# Altium footprint library con-wago255.PCBLIB: 101 footprints (part 3 of 7)
Each footprint in its own frame and in the unit in brackets; x right, y up, seen from the top. Pads: shape width x height; smd on the part's side, far side on the other; paste and mask are expansions set on the pad; w line width, h text height; cw(c..) or ccw(c..) is an arc to the next point about the centre after c.
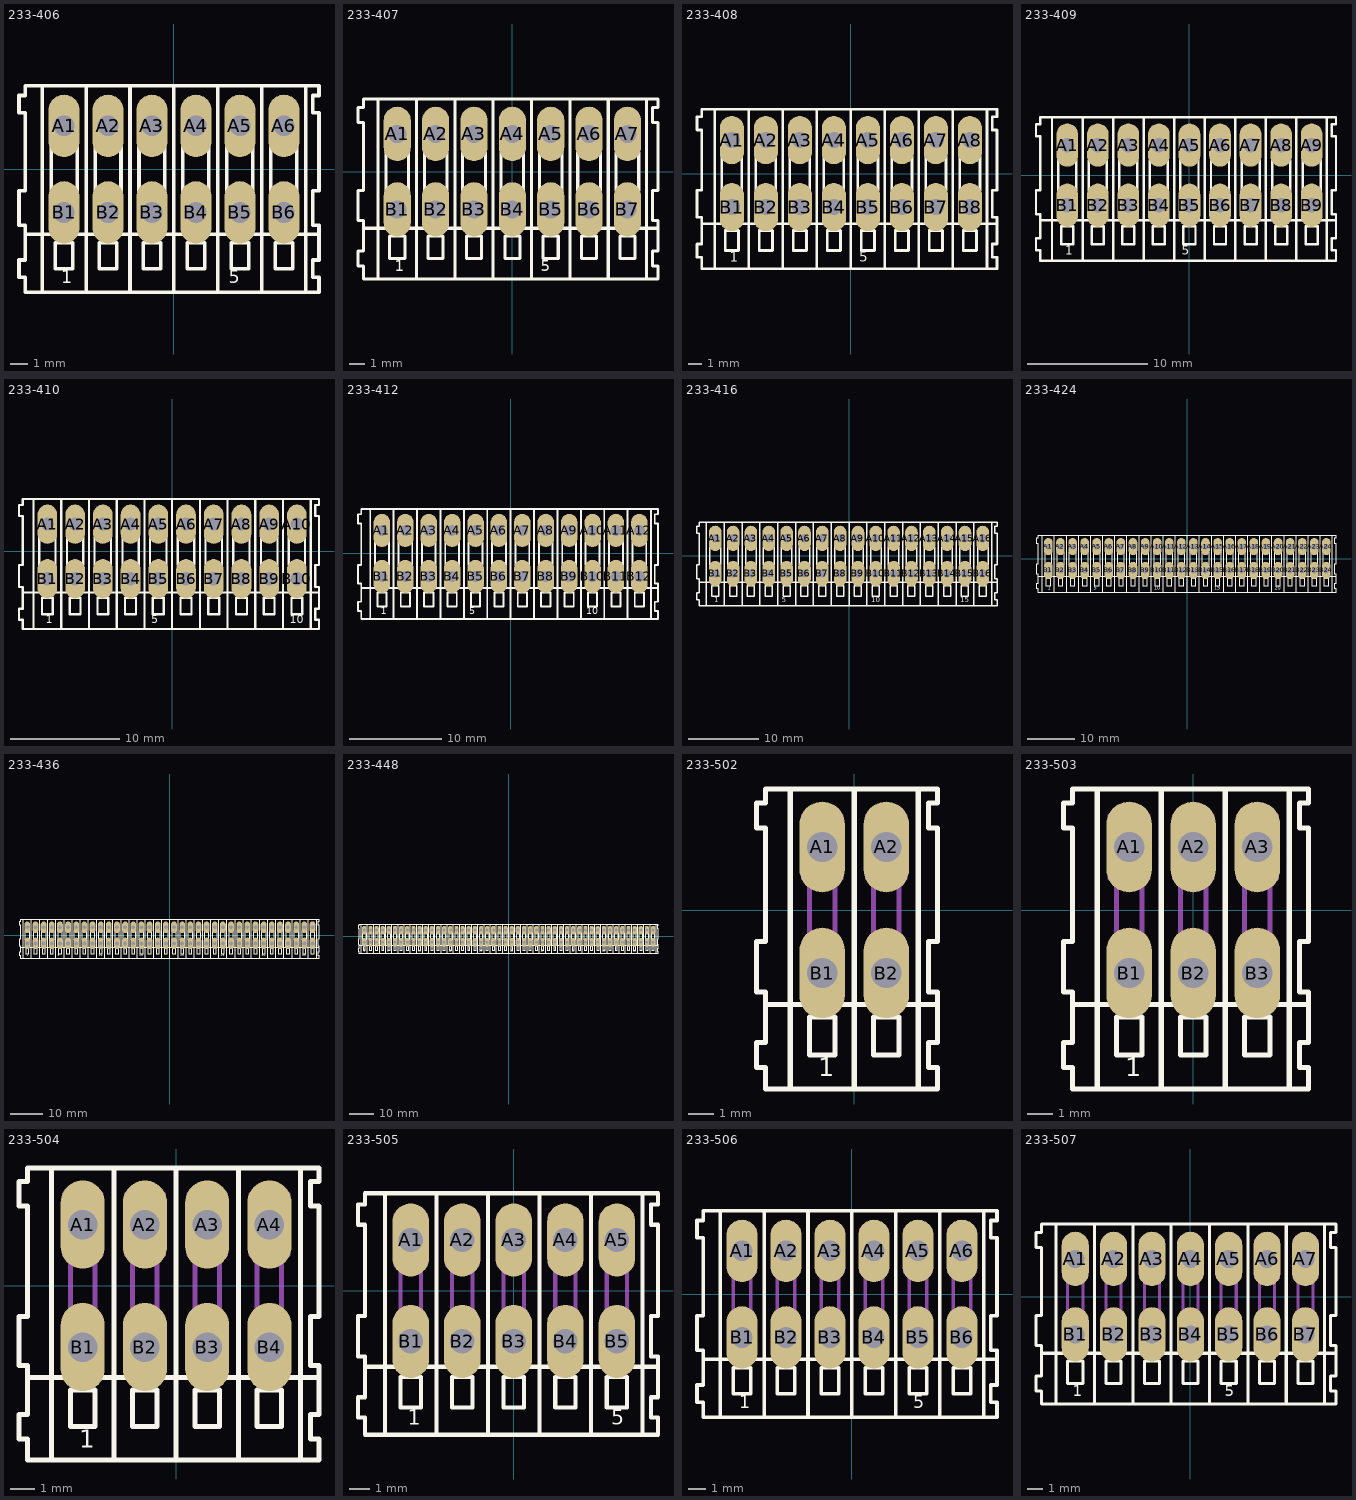
[diagram p2: the footprints below, top view; thin cyan lines are the x and y axes]

## 233-406 [mil]
pads (12):
  oval 70.86x141.72 hole 47.24: A1(-250,98.43) A2(-150,98.43) A3(-50,98.43) A4(50,98.43) A5(150,98.43) A6(250,98.43) B1(-250,-98.43) B2(-150,-98.43) B3(-50,-98.43) B4(50,-98.43) B5(150,-98.43) B6(250,-98.43)
Top Overlay:
  lines w8: -338.58,-147.64 329.72,-147.64 ; -300,-275 -300,185 ; -200,-275 -200,185 ; -100,-275 -100,185 ; 0,-275 0,185 ; 100,-275 100,185 ; 200,-275 200,185 ; 300,-275 300,185 ; 329.72,-147.64 329.72,-206.69 315.94,-206.69 315.94,-246.06 329.72,-246.06 329.72,-279.53 -338.58,-279.53 -338.58,-246.06 -352.36,-246.06 -352.36,-206.69 -338.58,-206.69 -338.58,-127.95 -352.36,-127.95 -352.36,-49.21 -338.58,-49.21 -338.58,127.95 -352.36,127.95 -352.36,167.32 -338.58,167.32 -338.58,188.98 329.72,188.98 329.72,167.32 315.94,167.32 315.94,127.95 329.72,127.95 329.72,-49.21 315.94,-49.21 315.94,-127.95 329.72,-127.95 329.72,-147.64 ; -279.53,-49.21 -279.53,49.21 -220.47,49.21 -220.47,-49.21 -279.53,-49.21 ; -269.69,-226.38 -269.69,-167.32 -230.32,-167.32 -230.32,-226.38 -269.69,-226.38 ; -179.53,-49.21 -179.53,49.21 -120.47,49.21 -120.47,-49.21 -179.53,-49.21 ; -169.69,-226.38 -169.69,-167.32 -130.32,-167.32 -130.32,-226.38 -169.69,-226.38 ; -79.53,-49.21 -79.53,49.21 -20.47,49.21 -20.47,-49.21 -79.53,-49.21 ; -69.69,-226.38 -69.69,-167.32 -30.32,-167.32 -30.32,-226.38 -69.69,-226.38 ; 20.47,-49.21 20.47,49.21 79.53,49.21 79.53,-49.21 20.47,-49.21 ; 30.32,-226.38 30.32,-167.32 69.69,-167.32 69.69,-226.38 30.32,-226.38 ; 120.47,-49.21 120.47,49.21 179.53,49.21 179.53,-49.21 120.47,-49.21 ; 130.32,-226.38 130.32,-167.32 169.69,-167.32 169.69,-226.38 130.32,-226.38 ; 220.47,-49.21 220.47,49.21 279.53,49.21 279.53,-49.21 220.47,-49.21 ; 230.32,-226.38 230.32,-167.32 269.69,-167.32 269.69,-226.38 230.32,-226.38
  text "1" at -255.91,-269.69 h49.6
  text "5" at 124.09,-269.69 h49.6

## 233-407 [mil]
pads (14):
  oval 70.86x141.72 hole 47.24: A1(-300,98.43) A2(-200,98.43) A3(-100,98.43) A4(0,98.43) A5(100,98.43) A6(200,98.43) A7(300,98.43) B1(-300,-98.43) B2(-200,-98.43) B3(-100,-98.43) B4(0,-98.43) B5(100,-98.43) B6(200,-98.43) B7(300,-98.43)
Top Overlay:
  lines w8: -388.58,-147.64 379.72,-147.64 ; -350,-275 -350,185 ; -250,-275 -250,185 ; -150,-275 -150,185 ; -50,-275 -50,185 ; 50,-275 50,185 ; 150,-275 150,185 ; 250,-275 250,185 ; 350,-275 350,185 ; 379.72,-147.64 379.72,-206.69 365.94,-206.69 365.94,-246.06 379.72,-246.06 379.72,-279.53 -388.58,-279.53 -388.58,-246.06 -402.36,-246.06 -402.36,-206.69 -388.58,-206.69 -388.58,-127.95 -402.36,-127.95 -402.36,-49.21 -388.58,-49.21 -388.58,127.95 -402.36,127.95 -402.36,167.32 -388.58,167.32 -388.58,188.98 379.72,188.98 379.72,167.32 365.94,167.32 365.94,127.95 379.72,127.95 379.72,-49.21 365.94,-49.21 365.94,-127.95 379.72,-127.95 379.72,-147.64 ; -329.53,-49.21 -329.53,49.21 -270.47,49.21 -270.47,-49.21 -329.53,-49.21 ; -319.69,-226.38 -319.69,-167.32 -280.32,-167.32 -280.32,-226.38 -319.69,-226.38 ; -229.53,-49.21 -229.53,49.21 -170.47,49.21 -170.47,-49.21 -229.53,-49.21 ; -219.69,-226.38 -219.69,-167.32 -180.32,-167.32 -180.32,-226.38 -219.69,-226.38 ; -129.53,-49.21 -129.53,49.21 -70.47,49.21 -70.47,-49.21 -129.53,-49.21 ; -119.69,-226.38 -119.69,-167.32 -80.32,-167.32 -80.32,-226.38 -119.69,-226.38 ; -29.53,-49.21 -29.53,49.21 29.53,49.21 29.53,-49.21 -29.53,-49.21 ; -19.69,-226.38 -19.69,-167.32 19.69,-167.32 19.69,-226.38 -19.69,-226.38 ; 70.47,-49.21 70.47,49.21 129.53,49.21 129.53,-49.21 70.47,-49.21 ; 80.32,-226.38 80.32,-167.32 119.69,-167.32 119.69,-226.38 80.32,-226.38 ; 170.47,-49.21 170.47,49.21 229.53,49.21 229.53,-49.21 170.47,-49.21 ; 180.32,-226.38 180.32,-167.32 219.69,-167.32 219.69,-226.38 180.32,-226.38 ; 270.47,-49.21 270.47,49.21 329.53,49.21 329.53,-49.21 270.47,-49.21 ; 280.32,-226.38 280.32,-167.32 319.69,-167.32 319.69,-226.38 280.32,-226.38
  text "1" at -305.91,-269.69 h49.6
  text "5" at 74.09,-269.69 h49.6

## 233-408 [mil]
pads (16):
  oval 70.86x141.72 hole 47.24: A1(-350,98.43) A2(-250,98.43) A3(-150,98.43) A4(-50,98.43) A5(50,98.43) A6(150,98.43) A7(250,98.43) A8(350,98.43) B1(-350,-98.43) B2(-250,-98.43) B3(-150,-98.43) B4(-50,-98.43) B5(50,-98.43) B6(150,-98.43) B7(250,-98.43) B8(350,-98.43)
Top Overlay:
  lines w8: -438.58,-147.64 429.72,-147.64 ; -400,-275 -400,185 ; -300,-275 -300,185 ; -200,-275 -200,185 ; -100,-275 -100,185 ; 0,-275 0,185 ; 100,-275 100,185 ; 200,-275 200,185 ; 300,-275 300,185 ; 400,-275 400,185 ; 429.72,-147.64 429.72,-206.69 415.94,-206.69 415.94,-246.06 429.72,-246.06 429.72,-279.53 -438.58,-279.53 -438.58,-246.06 -452.36,-246.06 -452.36,-206.69 -438.58,-206.69 -438.58,-127.95 -452.36,-127.95 -452.36,-49.21 -438.58,-49.21 -438.58,127.95 -452.36,127.95 -452.36,167.32 -438.58,167.32 -438.58,188.98 429.72,188.98 429.72,167.32 415.94,167.32 415.94,127.95 429.72,127.95 429.72,-49.21 415.94,-49.21 415.94,-127.95 429.72,-127.95 429.72,-147.64 ; -379.53,-49.21 -379.53,49.21 -320.47,49.21 -320.47,-49.21 -379.53,-49.21 ; -369.69,-226.38 -369.69,-167.32 -330.32,-167.32 -330.32,-226.38 -369.69,-226.38 ; -279.53,-49.21 -279.53,49.21 -220.47,49.21 -220.47,-49.21 -279.53,-49.21 ; -269.69,-226.38 -269.69,-167.32 -230.32,-167.32 -230.32,-226.38 -269.69,-226.38 ; -179.53,-49.21 -179.53,49.21 -120.47,49.21 -120.47,-49.21 -179.53,-49.21 ; -169.69,-226.38 -169.69,-167.32 -130.32,-167.32 -130.32,-226.38 -169.69,-226.38 ; -79.53,-49.21 -79.53,49.21 -20.47,49.21 -20.47,-49.21 -79.53,-49.21 ; -69.69,-226.38 -69.69,-167.32 -30.32,-167.32 -30.32,-226.38 -69.69,-226.38 ; 20.47,-49.21 20.47,49.21 79.53,49.21 79.53,-49.21 20.47,-49.21 ; 30.32,-226.38 30.32,-167.32 69.69,-167.32 69.69,-226.38 30.32,-226.38 ; 120.47,-49.21 120.47,49.21 179.53,49.21 179.53,-49.21 120.47,-49.21 ; 130.32,-226.38 130.32,-167.32 169.69,-167.32 169.69,-226.38 130.32,-226.38 ; 220.47,-49.21 220.47,49.21 279.53,49.21 279.53,-49.21 220.47,-49.21 ; 230.32,-226.38 230.32,-167.32 269.69,-167.32 269.69,-226.38 230.32,-226.38 ; 320.47,-49.21 320.47,49.21 379.53,49.21 379.53,-49.21 320.47,-49.21 ; 330.32,-226.38 330.32,-167.32 369.69,-167.32 369.69,-226.38 330.32,-226.38
  text "1" at -355.91,-269.69 h49.6
  text "5" at 24.09,-269.69 h49.6

## 233-409 [mil]
pads (18):
  oval 70.86x141.72 hole 47.24: A1(-400,98.43) A2(-300,98.43) A3(-200,98.43) A4(-100,98.43) A5(0,98.43) A6(100,98.43) A7(200,98.43) A8(300,98.43) A9(400,98.43) B1(-400,-98.43) B2(-300,-98.43) B3(-200,-98.43) B4(-100,-98.43) B5(0,-98.43) B6(100,-98.43) B7(200,-98.43) B8(300,-98.43) B9(400,-98.43)
Top Overlay:
  lines w8: -488.58,-147.64 479.72,-147.64 ; -450,-275 -450,185 ; -350,-275 -350,185 ; -250,-275 -250,185 ; -150,-275 -150,185 ; -50,-275 -50,185 ; 50,-275 50,185 ; 150,-275 150,185 ; 250,-275 250,185 ; 350,-275 350,185 ; 450,-275 450,185 ; 479.72,-147.64 479.72,-206.69 465.94,-206.69 465.94,-246.06 479.72,-246.06 479.72,-279.53 -488.58,-279.53 -488.58,-246.06 -502.36,-246.06 -502.36,-206.69 -488.58,-206.69 -488.58,-127.95 -502.36,-127.95 -502.36,-49.21 -488.58,-49.21 -488.58,127.95 -502.36,127.95 -502.36,167.32 -488.58,167.32 -488.58,188.98 479.72,188.98 479.72,167.32 465.94,167.32 465.94,127.95 479.72,127.95 479.72,-49.21 465.94,-49.21 465.94,-127.95 479.72,-127.95 479.72,-147.64 ; -429.53,-49.21 -429.53,49.21 -370.47,49.21 -370.47,-49.21 -429.53,-49.21 ; -419.69,-226.38 -419.69,-167.32 -380.32,-167.32 -380.32,-226.38 -419.69,-226.38 ; -329.53,-49.21 -329.53,49.21 -270.47,49.21 -270.47,-49.21 -329.53,-49.21 ; -319.69,-226.38 -319.69,-167.32 -280.32,-167.32 -280.32,-226.38 -319.69,-226.38 ; -229.53,-49.21 -229.53,49.21 -170.47,49.21 -170.47,-49.21 -229.53,-49.21 ; -219.69,-226.38 -219.69,-167.32 -180.32,-167.32 -180.32,-226.38 -219.69,-226.38 ; -129.53,-49.21 -129.53,49.21 -70.47,49.21 -70.47,-49.21 -129.53,-49.21 ; -119.69,-226.38 -119.69,-167.32 -80.32,-167.32 -80.32,-226.38 -119.69,-226.38 ; -29.53,-49.21 -29.53,49.21 29.53,49.21 29.53,-49.21 -29.53,-49.21 ; -19.69,-226.38 -19.69,-167.32 19.69,-167.32 19.69,-226.38 -19.69,-226.38 ; 70.47,-49.21 70.47,49.21 129.53,49.21 129.53,-49.21 70.47,-49.21 ; 80.32,-226.38 80.32,-167.32 119.69,-167.32 119.69,-226.38 80.32,-226.38 ; 170.47,-49.21 170.47,49.21 229.53,49.21 229.53,-49.21 170.47,-49.21 ; 180.32,-226.38 180.32,-167.32 219.69,-167.32 219.69,-226.38 180.32,-226.38 ; 270.47,-49.21 270.47,49.21 329.53,49.21 329.53,-49.21 270.47,-49.21 ; 280.32,-226.38 280.32,-167.32 319.69,-167.32 319.69,-226.38 280.32,-226.38 ; 370.47,-49.21 370.47,49.21 429.53,49.21 429.53,-49.21 370.47,-49.21 ; 380.32,-226.38 380.32,-167.32 419.69,-167.32 419.69,-226.38 380.32,-226.38
  text "1" at -405.91,-269.69 h49.6
  text "5" at -25.91,-269.69 h49.6

## 233-410 [mil]
pads (20):
  oval 70.86x141.72 hole 47.24: A1(-450,98.43) A2(-350,98.43) A3(-250,98.43) A4(-150,98.43) A5(-50,98.43) A6(50,98.43) A7(150,98.43) A8(250,98.43) A9(350,98.43) A10(450,98.43) B1(-450,-98.43) B2(-350,-98.43) B3(-250,-98.43) B4(-150,-98.43) B5(-50,-98.43) B6(50,-98.43) B7(150,-98.43) B8(250,-98.43) B9(350,-98.43) B10(450,-98.43)
Top Overlay:
  lines w8: -538.58,-147.64 529.72,-147.64 ; -500,-275 -500,185 ; -400,-275 -400,185 ; -300,-275 -300,185 ; -200,-275 -200,185 ; -100,-275 -100,185 ; 0,-275 0,185 ; 100,-275 100,185 ; 200,-275 200,185 ; 300,-275 300,185 ; 400,-275 400,185 ; 500,-275 500,185 ; 529.72,-147.64 529.72,-206.69 515.94,-206.69 515.94,-246.06 529.72,-246.06 529.72,-279.53 -538.58,-279.53 -538.58,-246.06 -552.36,-246.06 -552.36,-206.69 -538.58,-206.69 -538.58,-127.95 -552.36,-127.95 -552.36,-49.21 -538.58,-49.21 -538.58,127.95 -552.36,127.95 -552.36,167.32 -538.58,167.32 -538.58,188.98 529.72,188.98 529.72,167.32 515.94,167.32 515.94,127.95 529.72,127.95 529.72,-49.21 515.94,-49.21 515.94,-127.95 529.72,-127.95 529.72,-147.64 ; -479.53,-49.21 -479.53,49.21 -420.47,49.21 -420.47,-49.21 -479.53,-49.21 ; -469.69,-226.38 -469.69,-167.32 -430.32,-167.32 -430.32,-226.38 -469.69,-226.38 ; -379.53,-49.21 -379.53,49.21 -320.47,49.21 -320.47,-49.21 -379.53,-49.21 ; -369.69,-226.38 -369.69,-167.32 -330.32,-167.32 -330.32,-226.38 -369.69,-226.38 ; -279.53,-49.21 -279.53,49.21 -220.47,49.21 -220.47,-49.21 -279.53,-49.21 ; -269.69,-226.38 -269.69,-167.32 -230.32,-167.32 -230.32,-226.38 -269.69,-226.38 ; -179.53,-49.21 -179.53,49.21 -120.47,49.21 -120.47,-49.21 -179.53,-49.21 ; -169.69,-226.38 -169.69,-167.32 -130.32,-167.32 -130.32,-226.38 -169.69,-226.38 ; -79.53,-49.21 -79.53,49.21 -20.47,49.21 -20.47,-49.21 -79.53,-49.21 ; -69.69,-226.38 -69.69,-167.32 -30.32,-167.32 -30.32,-226.38 -69.69,-226.38 ; 20.47,-49.21 20.47,49.21 79.53,49.21 79.53,-49.21 20.47,-49.21 ; 30.32,-226.38 30.32,-167.32 69.69,-167.32 69.69,-226.38 30.32,-226.38 ; 120.47,-49.21 120.47,49.21 179.53,49.21 179.53,-49.21 120.47,-49.21 ; 130.32,-226.38 130.32,-167.32 169.69,-167.32 169.69,-226.38 130.32,-226.38 ; 220.47,-49.21 220.47,49.21 279.53,49.21 279.53,-49.21 220.47,-49.21 ; 230.32,-226.38 230.32,-167.32 269.69,-167.32 269.69,-226.38 230.32,-226.38 ; 320.47,-49.21 320.47,49.21 379.53,49.21 379.53,-49.21 320.47,-49.21 ; 330.32,-226.38 330.32,-167.32 369.69,-167.32 369.69,-226.38 330.32,-226.38 ; 420.47,-49.21 420.47,49.21 479.53,49.21 479.53,-49.21 420.47,-49.21 ; 430.32,-226.38 430.32,-167.32 469.69,-167.32 469.69,-226.38 430.32,-226.38
  text "1" at -455.91,-269.69 h49.6
  text "5" at -75.91,-269.69 h49.6
  text "10" at 424.09,-269.69 h49.6

## 233-412 [mil]
pads (24):
  oval 70.86x141.72 hole 47.24: A1(-550,98.43) A2(-450,98.43) A3(-350,98.43) A4(-250,98.43) A5(-150,98.43) A6(-50,98.43) A7(50,98.43) A8(150,98.43) A9(250,98.43) A10(350,98.43) A11(450,98.43) A12(550,98.43) B1(-550,-98.43) B2(-450,-98.43) B3(-350,-98.43) B4(-250,-98.43) B5(-150,-98.43) B6(-50,-98.43) B7(50,-98.43) B8(150,-98.43) B9(250,-98.43) B10(350,-98.43) B11(450,-98.43) B12(550,-98.43)
Top Overlay:
  lines w8: -638.58,-147.64 629.72,-147.64 ; -600,-275 -600,185 ; -500,-275 -500,185 ; -400,-275 -400,185 ; -300,-275 -300,185 ; -200,-275 -200,185 ; -100,-275 -100,185 ; 0,-275 0,185 ; 100,-275 100,185 ; 200,-275 200,185 ; 300,-275 300,185 ; 400,-275 400,185 ; 500,-275 500,185 ; 600,-275 600,185 ; 629.72,-147.64 629.72,-206.69 615.94,-206.69 615.94,-246.06 629.72,-246.06 629.72,-279.53 -638.58,-279.53 -638.58,-246.06 -652.36,-246.06 -652.36,-206.69 -638.58,-206.69 -638.58,-127.95 -652.36,-127.95 -652.36,-49.21 -638.58,-49.21 -638.58,127.95 -652.36,127.95 -652.36,167.32 -638.58,167.32 -638.58,188.98 629.72,188.98 629.72,167.32 615.94,167.32 615.94,127.95 629.72,127.95 629.72,-49.21 615.94,-49.21 615.94,-127.95 629.72,-127.95 629.72,-147.64 ; -579.53,-49.21 -579.53,49.21 -520.47,49.21 -520.47,-49.21 -579.53,-49.21 ; -569.69,-226.38 -569.69,-167.32 -530.32,-167.32 -530.32,-226.38 -569.69,-226.38 ; -479.53,-49.21 -479.53,49.21 -420.47,49.21 -420.47,-49.21 -479.53,-49.21 ; -469.69,-226.38 -469.69,-167.32 -430.32,-167.32 -430.32,-226.38 -469.69,-226.38 ; -379.53,-49.21 -379.53,49.21 -320.47,49.21 -320.47,-49.21 -379.53,-49.21 ; -369.69,-226.38 -369.69,-167.32 -330.32,-167.32 -330.32,-226.38 -369.69,-226.38 ; -279.53,-49.21 -279.53,49.21 -220.47,49.21 -220.47,-49.21 -279.53,-49.21 ; -269.69,-226.38 -269.69,-167.32 -230.32,-167.32 -230.32,-226.38 -269.69,-226.38 ; -179.53,-49.21 -179.53,49.21 -120.47,49.21 -120.47,-49.21 -179.53,-49.21 ; -169.69,-226.38 -169.69,-167.32 -130.32,-167.32 -130.32,-226.38 -169.69,-226.38 ; -79.53,-49.21 -79.53,49.21 -20.47,49.21 -20.47,-49.21 -79.53,-49.21 ; -69.69,-226.38 -69.69,-167.32 -30.32,-167.32 -30.32,-226.38 -69.69,-226.38 ; 20.47,-49.21 20.47,49.21 79.53,49.21 79.53,-49.21 20.47,-49.21 ; 30.32,-226.38 30.32,-167.32 69.69,-167.32 69.69,-226.38 30.32,-226.38 ; 120.47,-49.21 120.47,49.21 179.53,49.21 179.53,-49.21 120.47,-49.21 ; 130.32,-226.38 130.32,-167.32 169.69,-167.32 169.69,-226.38 130.32,-226.38 ; 220.47,-49.21 220.47,49.21 279.53,49.21 279.53,-49.21 220.47,-49.21 ; 230.32,-226.38 230.32,-167.32 269.69,-167.32 269.69,-226.38 230.32,-226.38 ; 320.47,-49.21 320.47,49.21 379.53,49.21 379.53,-49.21 320.47,-49.21 ; 330.32,-226.38 330.32,-167.32 369.69,-167.32 369.69,-226.38 330.32,-226.38 ; 420.47,-49.21 420.47,49.21 479.53,49.21 479.53,-49.21 420.47,-49.21 ; 430.32,-226.38 430.32,-167.32 469.69,-167.32 469.69,-226.38 430.32,-226.38 ; 520.47,-49.21 520.47,49.21 579.53,49.21 579.53,-49.21 520.47,-49.21 ; 530.32,-226.38 530.32,-167.32 569.69,-167.32 569.69,-226.38 530.32,-226.38
  text "1" at -555.91,-269.69 h49.6
  text "5" at -175.91,-269.69 h49.6
  text "10" at 324.09,-269.69 h49.6

## 233-416 [mil]
pads (32):
  oval 70.86x141.72 hole 47.24: A1(-750,98.43) A2(-650,98.43) A3(-550,98.43) A4(-450,98.43) A5(-350,98.43) A6(-250,98.43) A7(-150,98.43) A8(-50,98.43) A9(50,98.43) A10(150,98.43) A11(250,98.43) A12(350,98.43) A13(450,98.43) A14(550,98.43) A15(650,98.43) A16(750,98.43) B1(-750,-98.43) B2(-650,-98.43) B3(-550,-98.43) B4(-450,-98.43) B5(-350,-98.43) B6(-250,-98.43) B7(-150,-98.43) B8(-50,-98.43) B9(50,-98.43) B10(150,-98.43) B11(250,-98.43) B12(350,-98.43) B13(450,-98.43) B14(550,-98.43) B15(650,-98.43) B16(750,-98.43)
Top Overlay:
  drawing of 175 lines, arcs and shapes, not listed
  text "1" at -755.91,-269.69 h49.6
  text "5" at -375.91,-269.69 h49.6
  text "10" at 124.09,-269.69 h49.6
  text "15" at 624.09,-269.69 h49.6

## 233-424 [mil]
pads (48):
  oval 70.86x141.72 hole 47.24: A1(-1150,98.43) A2(-1050,98.43) A3(-950,98.43) A4(-850,98.43) A5(-750,98.43) A6(-650,98.43) A7(-550,98.43) A8(-450,98.43) A9(-350,98.43) A10(-250,98.43) A11(-150,98.43) A12(-50,98.43) A13(50,98.43) A14(150,98.43) A15(250,98.43) A16(350,98.43) A17(450,98.43) A18(550,98.43) A19(650,98.43) A20(750,98.43) A21(850,98.43) A22(950,98.43) A23(1050,98.43) A24(1150,98.43) B1(-1150,-98.43) B2(-1050,-98.43) B3(-950,-98.43) B4(-850,-98.43) B5(-750,-98.43) B6(-650,-98.43) B7(-550,-98.43) B8(-450,-98.43) B9(-350,-98.43) B10(-250,-98.43) B11(-150,-98.43) B12(-50,-98.43) B13(50,-98.43) B14(150,-98.43) B15(250,-98.43) B16(350,-98.43) B17(450,-98.43) B18(550,-98.43) B19(650,-98.43) B20(750,-98.43) B21(850,-98.43) B22(950,-98.43) B23(1050,-98.43) B24(1150,-98.43)
Top Overlay:
  drawing of 247 lines, arcs and shapes, not listed
  text "1" at -1155.91,-269.69 h49.6
  text "5" at -775.91,-269.69 h49.6
  text "10" at -275.91,-269.69 h49.6
  text "15" at 224.09,-269.69 h49.6
  text "20" at 724.09,-269.69 h49.6

## 233-436 [mil]
pads (72):
  oval 70.86x141.72 hole 47.24: A1(-1750,98.43) A2(-1650,98.43) A3(-1550,98.43) A4(-1450,98.43) A5(-1350,98.43) A6(-1250,98.43) A7(-1150,98.43) A8(-1050,98.43) A9(-950,98.43) A10(-850,98.43) A11(-750,98.43) A12(-650,98.43) A13(-550,98.43) A14(-450,98.43) A15(-350,98.43) A16(-250,98.43) A17(-150,98.43) A18(-50,98.43) A19(50,98.43) A20(150,98.43) A21(250,98.43) A22(350,98.43) A23(450,98.43) A24(550,98.43) A25(650,98.43) A26(750,98.43) A27(850,98.43) A28(950,98.43) A29(1050,98.43) A30(1150,98.43) A31(1250,98.43) A32(1350,98.43) A33(1450,98.43) A34(1550,98.43) A35(1650,98.43) A36(1750,98.43) B1(-1750,-98.43) B2(-1650,-98.43) B3(-1550,-98.43) B4(-1450,-98.43) B5(-1350,-98.43) B6(-1250,-98.43) B7(-1150,-98.43) B8(-1050,-98.43) B9(-950,-98.43) B10(-850,-98.43) B11(-750,-98.43) B12(-650,-98.43) B13(-550,-98.43) B14(-450,-98.43) B15(-350,-98.43) B16(-250,-98.43) B17(-150,-98.43) B18(-50,-98.43) B19(50,-98.43) B20(150,-98.43) B21(250,-98.43) B22(350,-98.43) B23(450,-98.43) B24(550,-98.43) B25(650,-98.43) B26(750,-98.43) B27(850,-98.43) B28(950,-98.43) B29(1050,-98.43) B30(1150,-98.43) B31(1250,-98.43) B32(1350,-98.43) B33(1450,-98.43) B34(1550,-98.43) B35(1650,-98.43) B36(1750,-98.43)
Top Overlay:
  drawing of 355 lines, arcs and shapes, not listed
  text "1" at -1755.91,-269.69 h49.6
  text "5" at -1375.91,-269.69 h49.6
  text "10" at -875.91,-269.69 h49.6
  text "15" at -375.91,-269.69 h49.6
  text "20" at 124.09,-269.69 h49.6
  text "25" at 624.09,-269.69 h49.6
  text "30" at 1124.09,-269.69 h49.6
  text "35" at 1624.09,-269.69 h49.6

## 233-448 [mil]
pads (96):
  oval 70.86x141.72 hole 47.24: A1(-2350,98.43) A2(-2250,98.43) A3(-2150,98.43) A4(-2050,98.43) A5(-1950,98.43) A6(-1850,98.43) A7(-1750,98.43) A8(-1650,98.43) A9(-1550,98.43) A10(-1450,98.43) A11(-1350,98.43) A12(-1250,98.43) A13(-1150,98.43) A14(-1050,98.43) A15(-950,98.43) A16(-850,98.43) A17(-750,98.43) A18(-650,98.43) A19(-550,98.43) A20(-450,98.43) A21(-350,98.43) A22(-250,98.43) A23(-150,98.43) A24(-50,98.43) A25(50,98.43) A26(150,98.43) A27(250,98.43) A28(350,98.43) A29(450,98.43) A30(550,98.43) A31(650,98.43) A32(750,98.43) A33(850,98.43) A34(950,98.43) A35(1050,98.43) A36(1150,98.43) A37(1250,98.43) A38(1350,98.43) A39(1450,98.43) A40(1550,98.43) A41(1650,98.43) A42(1750,98.43) A43(1850,98.43) A44(1950,98.43) A45(2050,98.43) A46(2150,98.43) A47(2250,98.43) A48(2350,98.43) B1(-2350,-98.43) B2(-2250,-98.43) B3(-2150,-98.43) B4(-2050,-98.43) B5(-1950,-98.43) B6(-1850,-98.43) B7(-1750,-98.43) B8(-1650,-98.43) B9(-1550,-98.43) B10(-1450,-98.43) B11(-1350,-98.43) B12(-1250,-98.43) B13(-1150,-98.43) B14(-1050,-98.43) B15(-950,-98.43) B16(-850,-98.43) B17(-750,-98.43) B18(-650,-98.43) B19(-550,-98.43) B20(-450,-98.43) B21(-350,-98.43) B22(-250,-98.43) B23(-150,-98.43) B24(-50,-98.43) B25(50,-98.43) B26(150,-98.43) B27(250,-98.43) B28(350,-98.43) B29(450,-98.43) B30(550,-98.43) B31(650,-98.43) B32(750,-98.43) B33(850,-98.43) B34(950,-98.43) B35(1050,-98.43) B36(1150,-98.43) B37(1250,-98.43) B38(1350,-98.43) B39(1450,-98.43) B40(1550,-98.43) B41(1650,-98.43) B42(1750,-98.43) B43(1850,-98.43) B44(1950,-98.43) B45(2050,-98.43) B46(2150,-98.43) B47(2250,-98.43) B48(2350,-98.43)
Top Overlay:
  drawing of 463 lines, arcs and shapes, not listed
  text "1" at -2355.91,-269.69 h49.6
  text "5" at -1975.91,-269.69 h49.6
  text "10" at -1475.91,-269.69 h49.6
  text "15" at -975.91,-269.69 h49.6
  text "20" at -475.91,-269.69 h49.6
  text "25" at 24.09,-269.69 h49.6
  text "30" at 524.09,-269.69 h49.6
  text "35" at 1024.09,-269.69 h49.6
  text "40" at 1524.09,-269.69 h49.6
  text "45" at 2024.09,-269.69 h49.6

## 233-502 [mil]
pads (4):
  oval 70.86x141.72 hole 47.24: A1(-50,98.43) A2(50,98.43) B1(-50,-98.43) B2(50,-98.43)
Top Overlay:
  lines w8: -138.58,-147.64 129.72,-147.64 ; -100,-275 -100,185 ; 0,-275 0,185 ; 100,-275 100,185 ; 129.72,-147.64 129.72,-206.69 115.94,-206.69 115.94,-246.06 129.72,-246.06 129.72,-279.53 -138.58,-279.53 -138.58,-246.06 -152.36,-246.06 -152.36,-206.69 -138.58,-206.69 -138.58,-127.95 -152.36,-127.95 -152.36,-49.21 -138.58,-49.21 -138.58,127.95 -152.36,127.95 -152.36,167.32 -138.58,167.32 -138.58,188.98 129.72,188.98 129.72,167.32 115.94,167.32 115.94,127.95 129.72,127.95 129.72,-49.21 115.94,-49.21 115.94,-127.95 129.72,-127.95 129.72,-147.64 ; -69.69,-226.38 -69.69,-167.32 -30.32,-167.32 -30.32,-226.38 -69.69,-226.38 ; 30.32,-226.38 30.32,-167.32 69.69,-167.32 69.69,-226.38 30.32,-226.38
  text "1" at -55.91,-269.69 h49.6
Mechanical 16:
  lines w8: -69.69,49.21 -79.53,49.21 -79.53,147.64 -20.47,147.64 -20.47,49.21 -30.32,49.21 ; -69.69,49.21 -30.32,49.21 ; -69.69,49.21 -69.69,-39.37 -30.32,-39.37 -30.32,49.21 ; 30.32,49.21 20.47,49.21 20.47,147.64 79.53,147.64 79.53,49.21 69.69,49.21 ; 30.32,49.21 69.69,49.21 ; 30.32,49.21 30.32,-39.37 69.69,-39.37 69.69,49.21 ; -69.69,68.9 -69.69,127.95 -30.32,127.95 -30.32,68.9 -69.69,68.9 ; 30.32,68.9 30.32,127.95 69.69,127.95 69.69,68.9 30.32,68.9

## 233-503 [mil]
pads (6):
  oval 70.86x141.72 hole 47.24: A1(-100,98.43) A2(0,98.43) A3(100,98.43) B1(-100,-98.43) B2(0,-98.43) B3(100,-98.43)
Top Overlay:
  lines w8: -188.58,-147.64 179.72,-147.64 ; -150,-275 -150,185 ; -50,-275 -50,185 ; 50,-275 50,185 ; 150,-275 150,185 ; 179.72,-147.64 179.72,-206.69 165.94,-206.69 165.94,-246.06 179.72,-246.06 179.72,-279.53 -188.58,-279.53 -188.58,-246.06 -202.36,-246.06 -202.36,-206.69 -188.58,-206.69 -188.58,-127.95 -202.36,-127.95 -202.36,-49.21 -188.58,-49.21 -188.58,127.95 -202.36,127.95 -202.36,167.32 -188.58,167.32 -188.58,188.98 179.72,188.98 179.72,167.32 165.94,167.32 165.94,127.95 179.72,127.95 179.72,-49.21 165.94,-49.21 165.94,-127.95 179.72,-127.95 179.72,-147.64 ; -119.69,-226.38 -119.69,-167.32 -80.32,-167.32 -80.32,-226.38 -119.69,-226.38 ; -19.69,-226.38 -19.69,-167.32 19.69,-167.32 19.69,-226.38 -19.69,-226.38 ; 80.32,-226.38 80.32,-167.32 119.69,-167.32 119.69,-226.38 80.32,-226.38
  text "1" at -105.91,-269.69 h49.6
Mechanical 16:
  lines w8: -119.69,49.21 -129.53,49.21 -129.53,147.64 -70.47,147.64 -70.47,49.21 -80.32,49.21 ; -119.69,49.21 -80.32,49.21 ; -119.69,49.21 -119.69,-39.37 -80.32,-39.37 -80.32,49.21 ; -19.69,49.21 -29.53,49.21 -29.53,147.64 29.53,147.64 29.53,49.21 19.69,49.21 ; -19.69,49.21 19.69,49.21 ; -19.69,49.21 -19.69,-39.37 19.69,-39.37 19.69,49.21 ; 80.32,49.21 70.47,49.21 70.47,147.64 129.53,147.64 129.53,49.21 119.69,49.21 ; 80.32,49.21 119.69,49.21 ; 80.32,49.21 80.32,-39.37 119.69,-39.37 119.69,49.21 ; -119.69,68.9 -119.69,127.95 -80.32,127.95 -80.32,68.9 -119.69,68.9 ; -19.69,68.9 -19.69,127.95 19.69,127.95 19.69,68.9 -19.69,68.9 ; 80.32,68.9 80.32,127.95 119.69,127.95 119.69,68.9 80.32,68.9

## 233-504 [mil]
pads (8):
  oval 70.86x141.72 hole 47.24: A1(-150,98.43) A2(-50,98.43) A3(50,98.43) A4(150,98.43) B1(-150,-98.43) B2(-50,-98.43) B3(50,-98.43) B4(150,-98.43)
Top Overlay:
  lines w8: -238.58,-147.64 229.72,-147.64 ; -200,-275 -200,185 ; -100,-275 -100,185 ; 0,-275 0,185 ; 100,-275 100,185 ; 200,-275 200,185 ; 229.72,-147.64 229.72,-206.69 215.94,-206.69 215.94,-246.06 229.72,-246.06 229.72,-279.53 -238.58,-279.53 -238.58,-246.06 -252.36,-246.06 -252.36,-206.69 -238.58,-206.69 -238.58,-127.95 -252.36,-127.95 -252.36,-49.21 -238.58,-49.21 -238.58,127.95 -252.36,127.95 -252.36,167.32 -238.58,167.32 -238.58,188.98 229.72,188.98 229.72,167.32 215.94,167.32 215.94,127.95 229.72,127.95 229.72,-49.21 215.94,-49.21 215.94,-127.95 229.72,-127.95 229.72,-147.64 ; -169.69,-226.38 -169.69,-167.32 -130.32,-167.32 -130.32,-226.38 -169.69,-226.38 ; -69.69,-226.38 -69.69,-167.32 -30.32,-167.32 -30.32,-226.38 -69.69,-226.38 ; 30.32,-226.38 30.32,-167.32 69.69,-167.32 69.69,-226.38 30.32,-226.38 ; 130.32,-226.38 130.32,-167.32 169.69,-167.32 169.69,-226.38 130.32,-226.38
  text "1" at -155.91,-269.69 h49.6
Mechanical 16:
  lines w8: -169.69,49.21 -179.53,49.21 -179.53,147.64 -120.47,147.64 -120.47,49.21 -130.32,49.21 ; -169.69,49.21 -130.32,49.21 ; -169.69,49.21 -169.69,-39.37 -130.32,-39.37 -130.32,49.21 ; -69.69,49.21 -79.53,49.21 -79.53,147.64 -20.47,147.64 -20.47,49.21 -30.32,49.21 ; -69.69,49.21 -30.32,49.21 ; -69.69,49.21 -69.69,-39.37 -30.32,-39.37 -30.32,49.21 ; 30.32,49.21 20.47,49.21 20.47,147.64 79.53,147.64 79.53,49.21 69.69,49.21 ; 30.32,49.21 69.69,49.21 ; 30.32,49.21 30.32,-39.37 69.69,-39.37 69.69,49.21 ; 130.32,49.21 120.47,49.21 120.47,147.64 179.53,147.64 179.53,49.21 169.69,49.21 ; 130.32,49.21 169.69,49.21 ; 130.32,49.21 130.32,-39.37 169.69,-39.37 169.69,49.21 ; -169.69,68.9 -169.69,127.95 -130.32,127.95 -130.32,68.9 -169.69,68.9 ; -69.69,68.9 -69.69,127.95 -30.32,127.95 -30.32,68.9 -69.69,68.9 ; 30.32,68.9 30.32,127.95 69.69,127.95 69.69,68.9 30.32,68.9 ; 130.32,68.9 130.32,127.95 169.69,127.95 169.69,68.9 130.32,68.9

## 233-505 [mil]
pads (10):
  oval 70.86x141.72 hole 47.24: A1(-200,98.43) A2(-100,98.43) A3(0,98.43) A4(100,98.43) A5(200,98.43) B1(-200,-98.43) B2(-100,-98.43) B3(0,-98.43) B4(100,-98.43) B5(200,-98.43)
Top Overlay:
  lines w8: -288.58,-147.64 279.72,-147.64 ; -250,-275 -250,185 ; -150,-275 -150,185 ; -50,-275 -50,185 ; 50,-275 50,185 ; 150,-275 150,185 ; 250,-275 250,185 ; 279.72,-147.64 279.72,-206.69 265.94,-206.69 265.94,-246.06 279.72,-246.06 279.72,-279.53 -288.58,-279.53 -288.58,-246.06 -302.36,-246.06 -302.36,-206.69 -288.58,-206.69 -288.58,-127.95 -302.36,-127.95 -302.36,-49.21 -288.58,-49.21 -288.58,127.95 -302.36,127.95 -302.36,167.32 -288.58,167.32 -288.58,188.98 279.72,188.98 279.72,167.32 265.94,167.32 265.94,127.95 279.72,127.95 279.72,-49.21 265.94,-49.21 265.94,-127.95 279.72,-127.95 279.72,-147.64 ; -219.69,-226.38 -219.69,-167.32 -180.32,-167.32 -180.32,-226.38 -219.69,-226.38 ; -119.69,-226.38 -119.69,-167.32 -80.32,-167.32 -80.32,-226.38 -119.69,-226.38 ; -19.69,-226.38 -19.69,-167.32 19.69,-167.32 19.69,-226.38 -19.69,-226.38 ; 80.32,-226.38 80.32,-167.32 119.69,-167.32 119.69,-226.38 80.32,-226.38 ; 180.32,-226.38 180.32,-167.32 219.69,-167.32 219.69,-226.38 180.32,-226.38
  text "1" at -205.91,-269.69 h49.6
  text "5" at 189.09,-269.69 h49.6
Mechanical 16:
  lines w8: -219.69,49.21 -229.53,49.21 -229.53,147.64 -170.47,147.64 -170.47,49.21 -180.32,49.21 ; -219.69,49.21 -180.32,49.21 ; -219.69,49.21 -219.69,-39.37 -180.32,-39.37 -180.32,49.21 ; -119.69,49.21 -129.53,49.21 -129.53,147.64 -70.47,147.64 -70.47,49.21 -80.32,49.21 ; -119.69,49.21 -80.32,49.21 ; -119.69,49.21 -119.69,-39.37 -80.32,-39.37 -80.32,49.21 ; -19.69,49.21 -29.53,49.21 -29.53,147.64 29.53,147.64 29.53,49.21 19.69,49.21 ; -19.69,49.21 19.69,49.21 ; -19.69,49.21 -19.69,-39.37 19.69,-39.37 19.69,49.21 ; 80.32,49.21 70.47,49.21 70.47,147.64 129.53,147.64 129.53,49.21 119.69,49.21 ; 80.32,49.21 119.69,49.21 ; 80.32,49.21 80.32,-39.37 119.69,-39.37 119.69,49.21 ; 180.32,49.21 170.47,49.21 170.47,147.64 229.53,147.64 229.53,49.21 219.69,49.21 ; 180.32,49.21 219.69,49.21 ; 180.32,49.21 180.32,-39.37 219.69,-39.37 219.69,49.21 ; -219.69,68.9 -219.69,127.95 -180.32,127.95 -180.32,68.9 -219.69,68.9 ; -119.69,68.9 -119.69,127.95 -80.32,127.95 -80.32,68.9 -119.69,68.9 ; -19.69,68.9 -19.69,127.95 19.69,127.95 19.69,68.9 -19.69,68.9 ; 80.32,68.9 80.32,127.95 119.69,127.95 119.69,68.9 80.32,68.9 ; 180.32,68.9 180.32,127.95 219.69,127.95 219.69,68.9 180.32,68.9

## 233-506 [mil]
pads (12):
  oval 70.86x141.72 hole 47.24: A1(-250,98.43) A2(-150,98.43) A3(-50,98.43) A4(50,98.43) A5(150,98.43) A6(250,98.43) B1(-250,-98.43) B2(-150,-98.43) B3(-50,-98.43) B4(50,-98.43) B5(150,-98.43) B6(250,-98.43)
Top Overlay:
  lines w8: -338.58,-147.64 329.72,-147.64 ; -300,-275 -300,185 ; -200,-275 -200,185 ; -100,-275 -100,185 ; 0,-275 0,185 ; 100,-275 100,185 ; 200,-275 200,185 ; 300,-275 300,185 ; 329.72,-147.64 329.72,-206.69 315.94,-206.69 315.94,-246.06 329.72,-246.06 329.72,-279.53 -338.58,-279.53 -338.58,-246.06 -352.36,-246.06 -352.36,-206.69 -338.58,-206.69 -338.58,-127.95 -352.36,-127.95 -352.36,-49.21 -338.58,-49.21 -338.58,127.95 -352.36,127.95 -352.36,167.32 -338.58,167.32 -338.58,188.98 329.72,188.98 329.72,167.32 315.94,167.32 315.94,127.95 329.72,127.95 329.72,-49.21 315.94,-49.21 315.94,-127.95 329.72,-127.95 329.72,-147.64 ; -269.69,-226.38 -269.69,-167.32 -230.32,-167.32 -230.32,-226.38 -269.69,-226.38 ; -169.69,-226.38 -169.69,-167.32 -130.32,-167.32 -130.32,-226.38 -169.69,-226.38 ; -69.69,-226.38 -69.69,-167.32 -30.32,-167.32 -30.32,-226.38 -69.69,-226.38 ; 30.32,-226.38 30.32,-167.32 69.69,-167.32 69.69,-226.38 30.32,-226.38 ; 130.32,-226.38 130.32,-167.32 169.69,-167.32 169.69,-226.38 130.32,-226.38 ; 230.32,-226.38 230.32,-167.32 269.69,-167.32 269.69,-226.38 230.32,-226.38
  text "1" at -255.91,-269.69 h49.6
  text "5" at 139.09,-269.69 h49.6
Mechanical 16:
  lines w8: -269.69,49.21 -279.53,49.21 -279.53,147.64 -220.47,147.64 -220.47,49.21 -230.32,49.21 ; -269.69,49.21 -230.32,49.21 ; -269.69,49.21 -269.69,-39.37 -230.32,-39.37 -230.32,49.21 ; -169.69,49.21 -179.53,49.21 -179.53,147.64 -120.47,147.64 -120.47,49.21 -130.32,49.21 ; -169.69,49.21 -130.32,49.21 ; -169.69,49.21 -169.69,-39.37 -130.32,-39.37 -130.32,49.21 ; -69.69,49.21 -79.53,49.21 -79.53,147.64 -20.47,147.64 -20.47,49.21 -30.32,49.21 ; -69.69,49.21 -30.32,49.21 ; -69.69,49.21 -69.69,-39.37 -30.32,-39.37 -30.32,49.21 ; 30.32,49.21 20.47,49.21 20.47,147.64 79.53,147.64 79.53,49.21 69.69,49.21 ; 30.32,49.21 69.69,49.21 ; 30.32,49.21 30.32,-39.37 69.69,-39.37 69.69,49.21 ; 130.32,49.21 120.47,49.21 120.47,147.64 179.53,147.64 179.53,49.21 169.69,49.21 ; 130.32,49.21 169.69,49.21 ; 130.32,49.21 130.32,-39.37 169.69,-39.37 169.69,49.21 ; 230.32,49.21 220.47,49.21 220.47,147.64 279.53,147.64 279.53,49.21 269.69,49.21 ; 230.32,49.21 269.69,49.21 ; 230.32,49.21 230.32,-39.37 269.69,-39.37 269.69,49.21 ; -269.69,68.9 -269.69,127.95 -230.32,127.95 -230.32,68.9 -269.69,68.9 ; -169.69,68.9 -169.69,127.95 -130.32,127.95 -130.32,68.9 -169.69,68.9 ; -69.69,68.9 -69.69,127.95 -30.32,127.95 -30.32,68.9 -69.69,68.9 ; 30.32,68.9 30.32,127.95 69.69,127.95 69.69,68.9 30.32,68.9 ; 130.32,68.9 130.32,127.95 169.69,127.95 169.69,68.9 130.32,68.9 ; 230.32,68.9 230.32,127.95 269.69,127.95 269.69,68.9 230.32,68.9

## 233-507 [mil]
pads (14):
  oval 70.86x141.72 hole 47.24: A1(-300,98.43) A2(-200,98.43) A3(-100,98.43) A4(0,98.43) A5(100,98.43) A6(200,98.43) A7(300,98.43) B1(-300,-98.43) B2(-200,-98.43) B3(-100,-98.43) B4(0,-98.43) B5(100,-98.43) B6(200,-98.43) B7(300,-98.43)
Top Overlay:
  lines w8: -388.58,-147.64 379.72,-147.64 ; -350,-275 -350,185 ; -250,-275 -250,185 ; -150,-275 -150,185 ; -50,-275 -50,185 ; 50,-275 50,185 ; 150,-275 150,185 ; 250,-275 250,185 ; 350,-275 350,185 ; 379.72,-147.64 379.72,-206.69 365.94,-206.69 365.94,-246.06 379.72,-246.06 379.72,-279.53 -388.58,-279.53 -388.58,-246.06 -402.36,-246.06 -402.36,-206.69 -388.58,-206.69 -388.58,-127.95 -402.36,-127.95 -402.36,-49.21 -388.58,-49.21 -388.58,127.95 -402.36,127.95 -402.36,167.32 -388.58,167.32 -388.58,188.98 379.72,188.98 379.72,167.32 365.94,167.32 365.94,127.95 379.72,127.95 379.72,-49.21 365.94,-49.21 365.94,-127.95 379.72,-127.95 379.72,-147.64 ; -319.69,-226.38 -319.69,-167.32 -280.32,-167.32 -280.32,-226.38 -319.69,-226.38 ; -219.69,-226.38 -219.69,-167.32 -180.32,-167.32 -180.32,-226.38 -219.69,-226.38 ; -119.69,-226.38 -119.69,-167.32 -80.32,-167.32 -80.32,-226.38 -119.69,-226.38 ; -19.69,-226.38 -19.69,-167.32 19.69,-167.32 19.69,-226.38 -19.69,-226.38 ; 80.32,-226.38 80.32,-167.32 119.69,-167.32 119.69,-226.38 80.32,-226.38 ; 180.32,-226.38 180.32,-167.32 219.69,-167.32 219.69,-226.38 180.32,-226.38 ; 280.32,-226.38 280.32,-167.32 319.69,-167.32 319.69,-226.38 280.32,-226.38
  text "1" at -305.91,-269.69 h49.6
  text "5" at 89.09,-269.69 h49.6
Mechanical 16:
  lines w8: -319.69,49.21 -329.53,49.21 -329.53,147.64 -270.47,147.64 -270.47,49.21 -280.32,49.21 ; -319.69,49.21 -280.32,49.21 ; -319.69,49.21 -319.69,-39.37 -280.32,-39.37 -280.32,49.21 ; -219.69,49.21 -229.53,49.21 -229.53,147.64 -170.47,147.64 -170.47,49.21 -180.32,49.21 ; -219.69,49.21 -180.32,49.21 ; -219.69,49.21 -219.69,-39.37 -180.32,-39.37 -180.32,49.21 ; -119.69,49.21 -129.53,49.21 -129.53,147.64 -70.47,147.64 -70.47,49.21 -80.32,49.21 ; -119.69,49.21 -80.32,49.21 ; -119.69,49.21 -119.69,-39.37 -80.32,-39.37 -80.32,49.21 ; -19.69,49.21 -29.53,49.21 -29.53,147.64 29.53,147.64 29.53,49.21 19.69,49.21 ; -19.69,49.21 19.69,49.21 ; -19.69,49.21 -19.69,-39.37 19.69,-39.37 19.69,49.21 ; 80.32,49.21 70.47,49.21 70.47,147.64 129.53,147.64 129.53,49.21 119.69,49.21 ; 80.32,49.21 119.69,49.21 ; 80.32,49.21 80.32,-39.37 119.69,-39.37 119.69,49.21 ; 180.32,49.21 170.47,49.21 170.47,147.64 229.53,147.64 229.53,49.21 219.69,49.21 ; 180.32,49.21 219.69,49.21 ; 180.32,49.21 180.32,-39.37 219.69,-39.37 219.69,49.21 ; 280.32,49.21 270.47,49.21 270.47,147.64 329.53,147.64 329.53,49.21 319.69,49.21 ; 280.32,49.21 319.69,49.21 ; 280.32,49.21 280.32,-39.37 319.69,-39.37 319.69,49.21 ; -319.69,68.9 -319.69,127.95 -280.32,127.95 -280.32,68.9 -319.69,68.9 ; -219.69,68.9 -219.69,127.95 -180.32,127.95 -180.32,68.9 -219.69,68.9 ; -119.69,68.9 -119.69,127.95 -80.32,127.95 -80.32,68.9 -119.69,68.9 ; -19.69,68.9 -19.69,127.95 19.69,127.95 19.69,68.9 -19.69,68.9 ; 80.32,68.9 80.32,127.95 119.69,127.95 119.69,68.9 80.32,68.9 ; 180.32,68.9 180.32,127.95 219.69,127.95 219.69,68.9 180.32,68.9 ; 280.32,68.9 280.32,127.95 319.69,127.95 319.69,68.9 280.32,68.9